# EAGLE library part RASPBERRY_PI_PICO_TH (library Inventory)
Raspberry Pi Pico microcontroller board for through-hole mounting. Originally made by codemicro (GitHub username), edited by Captain-Pumpkinhead (GitHub, Captain_Pumpkinhead for Reddit) to add the Test Points, and slightly adjust the proportions.
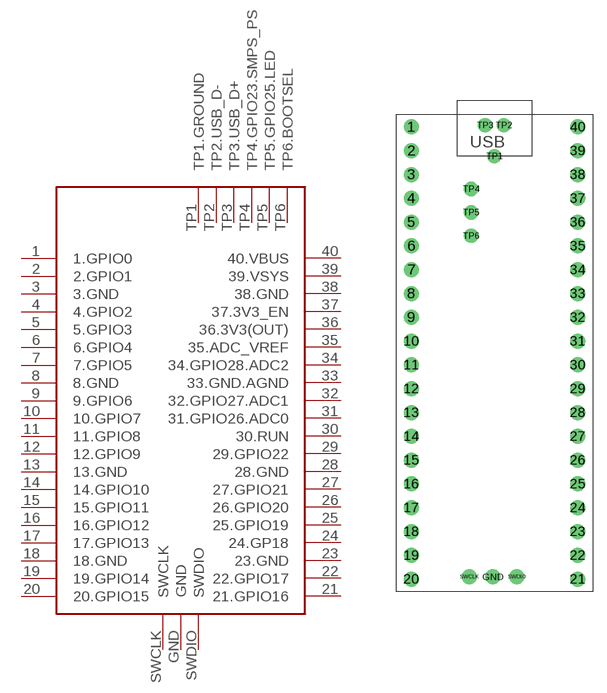
[diagram p4: symbol with the pads of RASPBERRY_PI_PICO_TH; footprint RASPBERRY_PI_PICO_TH]

Designator prefix -

## RASPBERRY_PI_PICO_TH  [RASPBERRY_PI_PICO_TH]
1  1.GPIO0
2  2.GPIO1
3  3.GND
4  4.GPIO2
5  5.GPIO3
6  6.GPIO4
7  7.GPIO5
8  8.GND
9  9.GPIO6
10  10.GPIO7
11  11.GPIO8
12  12.GPIO9
13  13.GND
14  14.GPIO10
15  15.GPIO11
16  16.GPIO12
17  17.GPIO13
18  18.GND
19  19.GPIO14
20  20.GPIO15
21  21.GPIO16
22  22.GPIO17
23  23.GND
24  24.GP18
25  25.GPIO19
26  26.GPIO20
27  27.GPIO21
28  28.GND
29  29.GPIO22
30  30.RUN
31  31.GPIO26.ADC0
32  32.GPIO27.ADC1
33  33.GND.AGND
34  34.GPIO28.ADC2
35  35.ADC_VREF
36  36.3V3(OUT)
37  37.3V3_EN
38  38.GND
39  39.VSYS
40  40.VBUS
GND  GND
SWCLK  SWCLK
SWDIO  SWDIO
TP1  TP1.GROUND
TP2  TP2.USB_D-
TP3  TP3.USB_D+
TP4  TP4.GPIO23.SMPS_PS
TP5  TP5.GPIO25.LED
TP6  TP6.BOOTSEL

## Footprint RASPBERRY_PI_PICO_TH (pad centres in mm)
Raspberry Pi Pico through-hole footprint
drill 1 pad 1.6: 1 -8.89,24.13; 2 -8.89,21.59; 3 -8.89,19.05; 4 -8.89,16.51; 5 -8.89,13.97; 6 -8.89,11.43; 7 -8.89,8.89; 8 -8.89,6.35; 9 -8.89,3.81; 10 -8.89,1.27; 11 -8.89,-1.27; 12 -8.89,-3.81; 13 -8.89,-6.35; 14 -8.89,-8.89; 15 -8.89,-11.43; 16 -8.89,-13.97; 17 -8.89,-16.51; 18 -8.89,-19.05; 19 -8.89,-21.59; 20 -8.89,-24.13; 21 8.89,-24.13; 22 8.89,-21.59; 23 8.89,-19.05; 24 8.89,-16.51; 25 8.89,-13.97; 26 8.89,-11.43; 27 8.89,-8.89; 28 8.89,-6.35; 29 8.89,-3.81; 30 8.89,-1.27; 31 8.89,1.27; 32 8.89,3.81; 33 8.89,6.35; 34 8.89,8.89; 35 8.89,11.43; 36 8.89,13.97; 37 8.89,16.51; 38 8.89,19.05; 39 8.89,21.59; 40 8.89,24.13; GND -0.16,-23.9; SWCLK -2.7,-23.9; SWDIO 2.38,-23.9
drill 1 pad 1.5: TP1 0,21; TP2 1,24.3; TP3 -1,24.3; TP4 -2.5,17.5; TP5 -2.5,15; TP6 -2.5,12.5